# EAGLE library part 2524-MCU (library chuni)
3M (TM) Pak 100 4-Wall Header Source: 3M
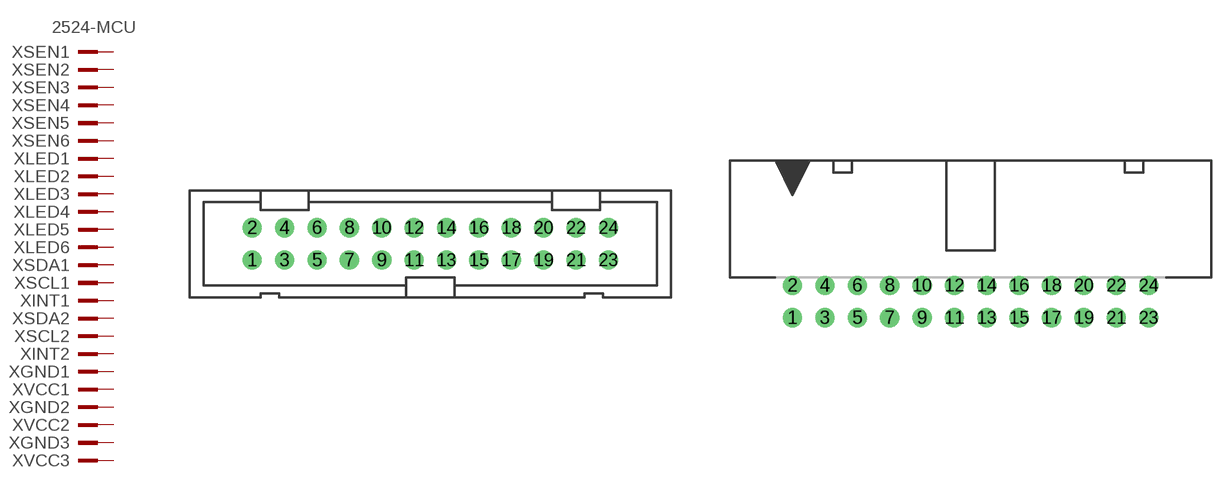
[diagram p3: symbol with the pads of PAK100/2500-24; footprints PAK100/2500-24, PAK100/2500-5-24]

Designator prefix X; gates SEN1=PINV-1 SEN2=PIN-1 SEN3=PIN-1 SEN4=PIN-1 SEN5=PIN-1 SEN6=PIN-1 LED1=PIN-1 LED2=PIN-1 LED3=PIN-1 LED4=PIN-1 LED5=PIN-1 LED6=PIN-1 SDA1=PIN-1 SCL1=PIN-1 INT1=PIN-1 SDA2=PIN-1 SCL2=PIN-1 INT2=PIN-1 GND1=PIN-1 VCC1=PIN-1 GND2=PIN-1 VCC2=PIN-1 GND3=PIN-1 VCC3=PIN-1

## 2524-MCU (OC_FARNELL: unknown; OC_NEWARK: unknown)  [PAK100/2500-24]
1  SEN1:KL  pas
2  SEN2:KL  pas
3  SEN3:KL  pas
4  SEN4:KL  pas
5  SEN5:KL  pas
6  SEN6:KL  pas
7  LED1:KL  pas
8  LED2:KL  pas
9  LED3:KL  pas
10  LED4:KL  pas
11  LED5:KL  pas
12  LED6:KL  pas
13  SDA1:KL  pas
14  SCL1:KL  pas
15  INT1:KL  pas
16  SDA2:KL  pas
17  SCL2:KL  pas
18  INT2:KL  pas
19  GND1:KL  pas
20  VCC1:KL  pas
21  GND2:KL  pas
22  VCC2:KL  pas
23  GND3:KL  pas
24  VCC3:KL  pas

## 2524-MCU5 (OC_FARNELL: 9838465; OC_NEWARK: unknown)  [PAK100/2500-5-24]
Pads as for PAK100/2500-24

## Footprint PAK100/2500-24 (pad centres in mm)
3M (TM) Pak 100 4-Wall Header Straight Source: 3M
drill 1 pad 1.422: 1 -13.97,-1.27; 2 -13.97,1.27; 3 -11.43,-1.27; 4 -11.43,1.27; 5 -8.89,-1.27; 6 -8.89,1.27; 7 -6.35,-1.27; 8 -6.35,1.27; 9 -3.81,-1.27; 10 -3.81,1.27; 11 -1.27,-1.27; 12 -1.27,1.27; 13 1.27,-1.27; 14 1.27,1.27; 15 3.81,-1.27; 16 3.81,1.27; 17 6.35,-1.27; 18 6.35,1.27; 19 8.89,-1.27; 20 8.89,1.27; 21 11.43,-1.27; 22 11.43,1.27; 23 13.97,-1.27; 24 13.97,1.27

## Footprint PAK100/2500-5-24 (pad centres in mm)
3M (TM) Pak 100 4-Wall Header Right Angle Source: 3M
drill 1 pad 1.422: 1 -13.97,-1.27; 2 -13.97,1.27; 3 -11.43,-1.27; 4 -11.43,1.27; 5 -8.89,-1.27; 6 -8.89,1.27; 7 -6.35,-1.27; 8 -6.35,1.27; 9 -3.81,-1.27; 10 -3.81,1.27; 11 -1.27,-1.27; 12 -1.27,1.27; 13 1.27,-1.27; 14 1.27,1.27; 15 3.81,-1.27; 16 3.81,1.27; 17 6.35,-1.27; 18 6.35,1.27; 19 8.89,-1.27; 20 8.89,1.27; 21 11.43,-1.27; 22 11.43,1.27; 23 13.97,-1.27; 24 13.97,1.27